# EAGLE library part PCI_SLOT_PORT (library con-pc)
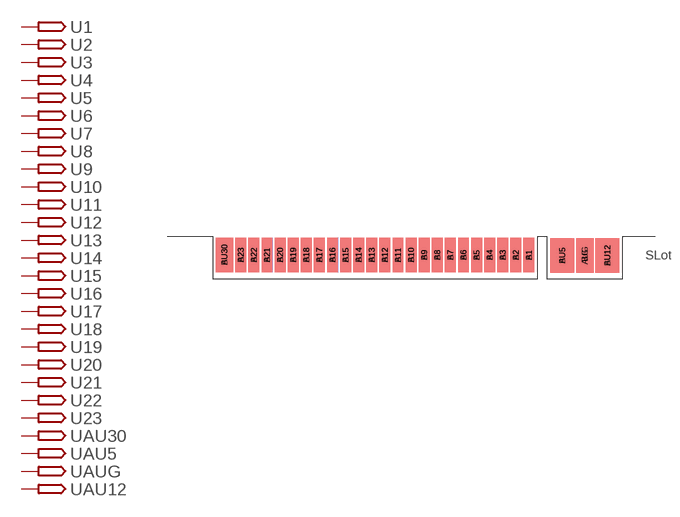
[diagram p14: symbol with the pads of PCI_BRDL; footprint PCI_BRDL]

Designator prefix -; gates 1=PIN 2=PIN 3=PIN 4=PIN 5=PIN 6=PIN 7=PIN 8=PIN 9=PIN 10=PIN 11=PIN 12=PIN 13=PIN 14=PIN 15=PIN 16=PIN 17=PIN 18=PIN 19=PIN 20=PIN 21=PIN 22=PIN 23=PIN AU30=PIN AU5=PIN AUG=PIN AU12=PIN

## PCI_SLOT_PORT  [PCI_BRDL]
A1  1:P  pas
A2  2:P  pas
A3  3:P  pas
A4  4:P  pas
A5  5:P  pas
A6  6:P  pas
A7  7:P  pas
A8  8:P  pas
A9  9:P  pas
A10  10:P  pas
A11  11:P  pas
A12  12:P  pas
A13  13:P  pas
A14  14:P  pas
A15  15:P  pas
A16  16:P  pas
A17  17:P  pas
A18  18:P  pas
A19  19:P  pas
A20  20:P  pas
A21  21:P  pas
A22  22:P  pas
A23  23:P  pas
AU5  AU5:P  pas
AU12  AU12:P  pas
AU30  AU30:P  pas
AUG  AUG:P  pas

## Footprint PCI_BRDL (pad centres in mm)
PCI BOARD LONG
smd 2.12 x 6.7: A1 62.529,12.314; A2 59.989,12.314; A3 57.449,12.314; A4 54.909,12.314; A5 52.369,12.314; A6 49.829,12.314; A7 47.289,12.314; A8 44.749,12.314; A9 42.209,12.314; A10 39.669,12.314; A11 37.129,12.314; A12 34.589,12.314; A13 32.049,12.314; A14 29.509,12.314; A15 26.969,12.314; A16 24.429,12.314; A17 21.889,12.314; A18 19.349,12.314; A19 16.809,12.314; A20 14.269,12.314; A21 11.729,12.314; A22 9.189,12.314; A23 6.649,12.314
smd 4.7 x 6.7: AU5 68.985,12.234; AU12 77.735,12.234
smd 3.4 x 6.7: AU30 3.473,12.37; AUG 73.36,12.234
smd 2.12 x 6.7 bottom: B1 62.538,12.322; B2 59.998,12.322; B3 57.458,12.322; B4 54.917,12.322; B5 52.377,12.322; B6 49.837,12.322; B7 47.297,12.322; B8 44.758,12.322; B9 42.218,12.322; B10 39.678,12.322; B11 37.138,12.322; B12 34.597,12.322; B13 32.057,12.322; B14 29.517,12.322; B15 26.977,12.322; B16 24.438,12.322; B17 21.898,12.322; B18 19.358,12.322; B19 16.817,12.322; B20 14.277,12.322; B21 11.738,12.322; B22 9.197,12.322; B23 6.657,12.322
smd 3.4 x 6.7 bottom: BG 73.362,12.242; BU30 3.473,12.37
smd 4.7 x 6.7 bottom: BU5 68.987,12.242; BU12 77.737,12.242